# Altium footprint library PcbLib1.PcbLib: 1 footprints
Each footprint in its own frame and in the unit in brackets; x right, y up, seen from the top. Pads: shape width x height; smd on the part's side, far side on the other; paste and mask are expansions set on the pad; w line width, h text height; cw(c..) or ccw(c..) is an arc to the next point about the centre after c.
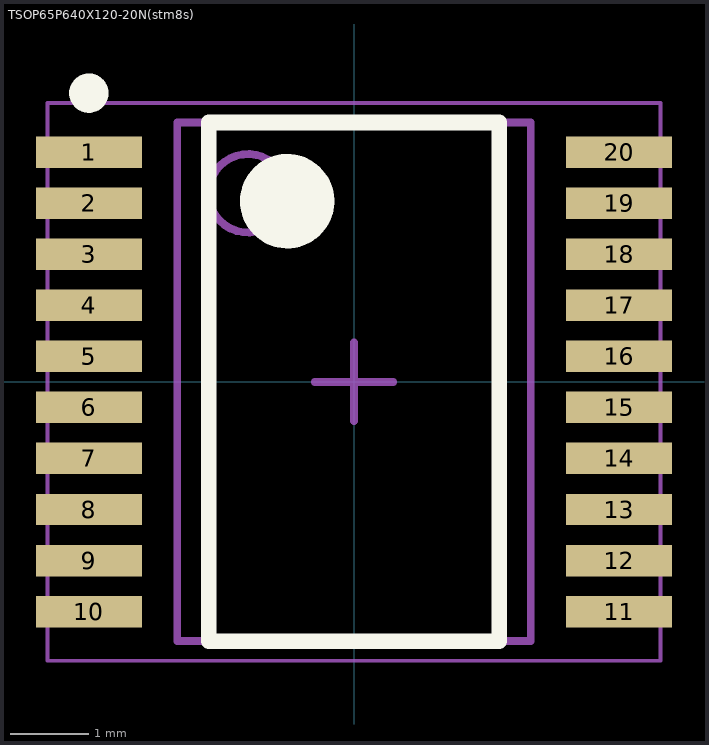
[diagram p0: the footprint, top view; thin cyan lines are the x and y axes]

## TSOP65P640X120-20N(stm8s) [mm] "TSOP, 20-Leads, Body 6,50x4,40mm, Pitch 0,65mm, IPC Medium Density"
height 1.2
pads (20):
  rect 1.35x0.4 smd: 1(-3.375,2.925) 2(-3.375,2.275) 3(-3.375,1.625) 4(-3.375,0.975) 5(-3.375,0.325) 6(-3.375,-0.325) 7(-3.375,-0.975) 8(-3.375,-1.625) 9(-3.375,-2.275) 10(-3.375,-2.925) 11(3.375,-2.925) 12(3.375,-2.275) 13(3.375,-1.625) 14(3.375,-0.975) 15(3.375,-0.325) 16(3.375,0.325) 17(3.375,0.975) 18(3.375,1.625) 19(3.375,2.275) 20(3.375,2.925)
Top Overlay:
  circle w0.6: c-0.85,2.3 r0.3
  circle w0.25: c-3.375,3.675 r0.125
  lines w0.2: -1.85,-3.3 1.85,-3.3 1.85,3.3 -1.85,3.3 -1.85,-3.3
Mechanical 13:
  circle w0.1: c-1.35,2.4 r0.5
  lines w0.1: -2.25,-3.3 2.25,-3.3 2.25,3.3 -2.25,3.3 -2.25,-3.3
Mechanical 15:
  lines w0.05: -3.9,-3.55 3.9,-3.55 3.9,3.55 -3.9,3.55 -3.9,-3.55
  lines w0.1: -0.5,0 0.5,0 ; 0,-0.5 0,0.5
3D body: height 1.2, standoff 0.05, extent -2.25,-3.3 2.25,3.3